# EAGLE library part C8051F506IQ (library carrilib)
8051 Derivative with CAN Manufacturer: SiLabs Part Number: C8051F506IQ
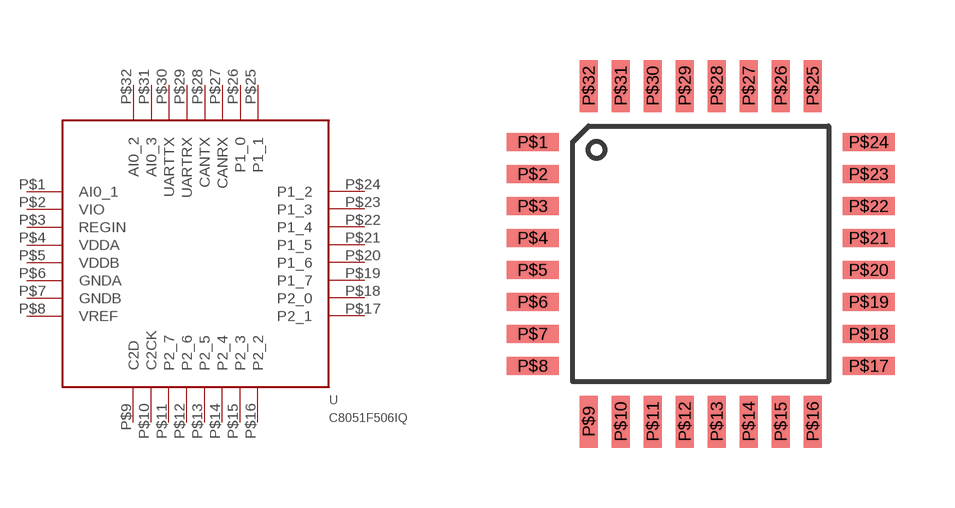
[diagram p12: symbol with the pads of QFP32; footprint QFP32]

Designator prefix U

## C8051F506IQ  [QFP32]
P$1  AI0_1
P$2  VIO
P$3  REGIN
P$4  VDDA
P$5  VDDB
P$6  GNDA
P$7  GNDB
P$8  VREF
P$9  C2D
P$10  C2CK
P$11  P2_7
P$12  P2_6
P$13  P2_5
P$14  P2_4
P$15  P2_3
P$16  P2_2
P$17  P2_1
P$18  P2_0
P$19  P1_7
P$20  P1_6
P$21  P1_5
P$22  P1_4
P$23  P1_3
P$24  P1_2
P$25  P1_1
P$26  P1_0
P$27  CANRX
P$28  CANTX
P$29  UARTRX
P$30  UARTTX
P$31  AI0_3
P$32  AI0_2

## Footprint QFP32 (pad centres in mm)
smd 1.3 x 0.45: P$1 -4.2,2.8; P$2 -4.2,2; P$3 -4.2,1.2; P$4 -4.2,0.4; P$5 -4.2,-0.4; P$6 -4.2,-1.2; P$7 -4.2,-2; P$8 -4.2,-2.8; P$17 4.2,-2.8; P$18 4.2,-2; P$19 4.2,-1.2; P$20 4.2,-0.4; P$21 4.2,0.4; P$22 4.2,1.2; P$23 4.2,2; P$24 4.2,2.8
smd 0.45 x 1.3: P$9 -2.8,-4.2; P$10 -2,-4.2; P$11 -1.2,-4.2; P$12 -0.4,-4.2; P$13 0.4,-4.2; P$14 1.2,-4.2; P$15 2,-4.2; P$16 2.8,-4.2; P$25 2.8,4.2; P$26 2,4.2; P$27 1.2,4.2; P$28 0.4,4.2; P$29 -0.4,4.2; P$30 -1.2,4.2; P$31 -2,4.2; P$32 -2.8,4.2